# Altium footprint library RG2012P-472-B-T5.PcbLib: 3 footprints
Each footprint in its own frame and in the unit in brackets; x right, y up, seen from the top. Pads: shape width x height; smd on the part's side, far side on the other; paste and mask are expansions set on the pad; w line width, h text height; cw(c..) or ccw(c..) is an arc to the next point about the centre after c.
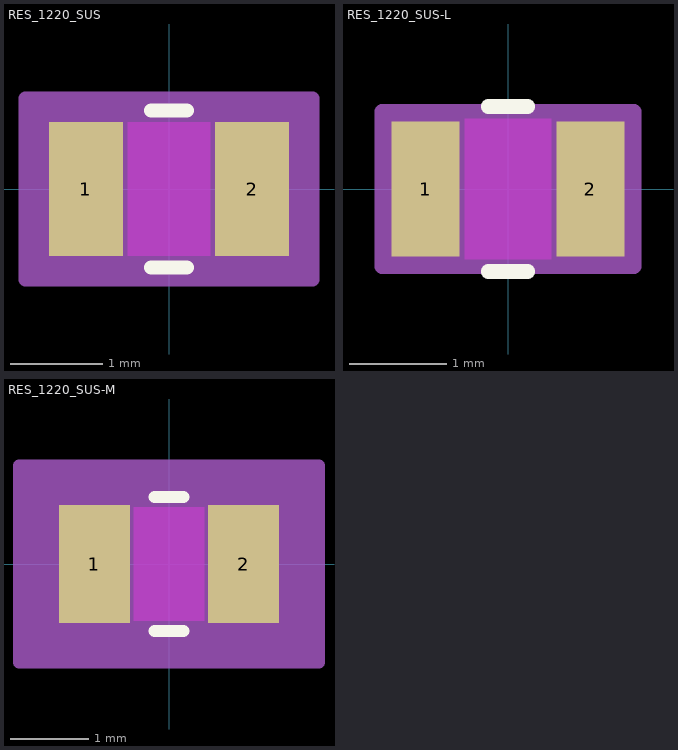
[diagram p0: the footprints below, top view; thin cyan lines are the x and y axes]

## RES_1220_SUS [mm]
pads (2):
  rect 0.803x1.45 smd paste+0 mask+0: 1(-0.902,0) 2(0.902,0)
Top Layer keep-out:
  region: -0.449,-0.674 -0.449,0.674 0.449,0.674 0.449,-0.674
Top Overlay:
  lines w0.152: -0.192,-0.852 0.192,-0.852 ; -0.192,0.852 0.192,0.852
Keep-Out Layer:
  region: -0.449,-0.725 -0.449,0.725 0.449,0.725 0.449,-0.725
Mechanical 13:
  lines w0.025: -1.1,-0.725 -1.1,0.725 ; -1.1,-0.725 -0.5,-0.725 -0.5,0.725 -1.1,0.725 ; -1.1,-0.725 1.1,-0.725 ; -1.1,-0.725 -1.1,0.725 ; -1.1,0.725 1.1,0.725 ; 1.1,-0.725 0.5,-0.725 0.5,0.725 1.1,0.725 ; 1.1,-0.725 1.1,0.725 ; 1.1,-0.725 1.1,0.725
Mechanical 15:
  region: 1.557,-0.979 -1.557,-0.979 -1.557,0.979 1.557,0.979
  lines w0.152: -1.557,-0.979 -1.557,0.979 1.557,0.979 1.557,-0.979 -1.557,-0.979
3D body "RES_1220_SUS.step": height 0.7, standoff 0, extent -1.1,-0.725 1.1,0.725

## RES_1220_SUS-L [mm]
pads (2):
  rect 0.702x1.399 smd paste+0 mask+0: 1(-0.851,0) 2(0.851,0)
Top Layer keep-out:
  region: -0.449,-0.674 -0.449,0.674 0.449,0.674 0.449,-0.674
Top Overlay:
  lines w0.152: -0.204,-0.852 0.204,-0.852 ; -0.204,0.852 0.204,0.852
Keep-Out Layer:
  region: -0.449,-0.725 -0.449,0.725 0.449,0.725 0.449,-0.725
Mechanical 13:
  lines w0.025: -1.1,-0.725 -1.1,0.725 ; -1.1,-0.725 -0.5,-0.725 -0.5,0.725 -1.1,0.725 ; -1.1,-0.725 1.1,-0.725 ; -1.1,-0.725 -1.1,0.725 ; -1.1,0.725 1.1,0.725 ; 1.1,-0.725 0.5,-0.725 0.5,0.725 1.1,0.725 ; 1.1,-0.725 1.1,0.725 ; 1.1,-0.725 1.1,0.725
Mechanical 15:
  region: 1.303,-0.801 -1.303,-0.801 -1.303,0.801 1.303,0.801
  lines w0.152: -1.303,-0.801 -1.303,0.801 1.303,0.801 1.303,-0.801 -1.303,-0.801
3D body "RES_1220_SUS.step": height 0.7, standoff 0, extent -1.1,-0.725 1.1,0.725

## RES_1220_SUS-M [mm]
pads (2):
  rect 0.905x1.501 smd paste+0 mask+0: 1(-0.952,0) 2(0.952,0)
Top Layer keep-out:
  region: -0.449,-0.674 -0.449,0.674 0.449,0.674 0.449,-0.674
Top Overlay:
  lines w0.152: -0.183,-0.852 0.183,-0.852 ; -0.183,0.852 0.183,0.852
Keep-Out Layer:
  region: -0.449,-0.725 -0.449,0.725 0.449,0.725 0.449,-0.725
Mechanical 13:
  lines w0.025: -1.1,-0.725 -1.1,0.725 ; -1.1,-0.725 -0.5,-0.725 -0.5,0.725 -1.1,0.725 ; -1.1,-0.725 1.1,-0.725 ; -1.1,-0.725 -1.1,0.725 ; -1.1,0.725 1.1,0.725 ; 1.1,-0.725 0.5,-0.725 0.5,0.725 1.1,0.725 ; 1.1,-0.725 1.1,0.725 ; 1.1,-0.725 1.1,0.725
Mechanical 15:
  region: 1.913,-1.258 -1.913,-1.258 -1.913,1.258 1.913,1.258
  lines w0.152: -1.913,-1.258 -1.913,1.258 1.913,1.258 1.913,-1.258 -1.913,-1.258
3D body "RES_1220_SUS.step": height 0.7, standoff 0, extent -1.1,-0.725 1.1,0.725